# EAGLE library part FTSH-120-01-F-DV (library FTSH-120-01-F-DV)
40 Position, High Reliability Header Strips, 0.050" pitch Source: Datasheet <http://suddendocs.samtec.com/prints/ftsh-1xx-xx-xxx-dv-xxx-xxx-mkt.pdf>
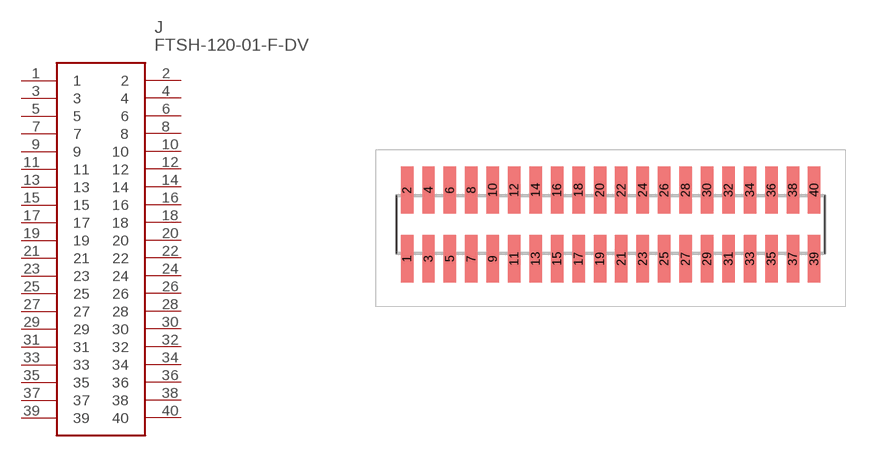
[diagram p0: symbol with the pads of FTSH-120-XX-YYY-DV; footprint FTSH-120-XX-YYY-DV]

Designator prefix J

## FTSH-120-01-F-DV (Description: 40 Position, High Reliability Header Strips, 0.050&quot; pitch; Height: mm; Manufacturer_Name: SAMTEC; Manufacturer_Part_Number: FTSH-120-01-F-DV; Mouser_Part_Number: 200-FTSH12001FDV; Mouser_Price-Stock: https://www.mouser.co.uk/ProductDetail/Samtec/FTSH-120-01-F-DV?qs=fxGgxIsqC8JsK39KpwHvLg%3D%3D)  [FTSH-120-XX-YYY-DV]
1  1
2  2
3  3
4  4
5  5
6  6
7  7
8  8
9  9
10  10
11  11
12  12
13  13
14  14
15  15
16  16
17  17
18  18
19  19
20  20
21  21
22  22
23  23
24  24
25  25
26  26
27  27
28  28
29  29
30  30
31  31
32  32
33  33
34  34
35  35
36  36
37  37
38  38
39  39
40  40

## Footprint FTSH-120-XX-YYY-DV (pad centres in mm)
FTSH-120-XX-YYY-DV
smd 0.74 x 2.79: 1 -12.065,-2.035; 2 -12.065,2.035; 3 -10.795,-2.035; 4 -10.795,2.035; 5 -9.525,-2.035; 6 -9.525,2.035; 7 -8.255,-2.035; 8 -8.255,2.035; 9 -6.985,-2.035; 10 -6.985,2.035; 11 -5.715,-2.035; 12 -5.715,2.035; 13 -4.445,-2.035; 14 -4.445,2.035; 15 -3.175,-2.035; 16 -3.175,2.035; 17 -1.905,-2.035; 18 -1.905,2.035; 19 -0.635,-2.035; 20 -0.635,2.035; 21 0.635,-2.035; 22 0.635,2.035; 23 1.905,-2.035; 24 1.905,2.035; 25 3.175,-2.035; 26 3.175,2.035; 27 4.445,-2.035; 28 4.445,2.035; 29 5.715,-2.035; 30 5.715,2.035; 31 6.985,-2.035; 32 6.985,2.035; 33 8.255,-2.035; 34 8.255,2.035; 35 9.525,-2.035; 36 9.525,2.035; 37 10.795,-2.035; 38 10.795,2.035; 39 12.065,-2.035; 40 12.065,2.035